# Altium footprint library SOIC16P127_990X604X160L55X40N.PcbLib: 1 footprints
Each footprint in its own frame and in the unit in brackets; x right, y up, seen from the top. Pads: shape width x height; smd on the part's side, far side on the other; paste and mask are expansions set on the pad; w line width, h text height; cw(c..) or ccw(c..) is an arc to the next point about the centre after c.
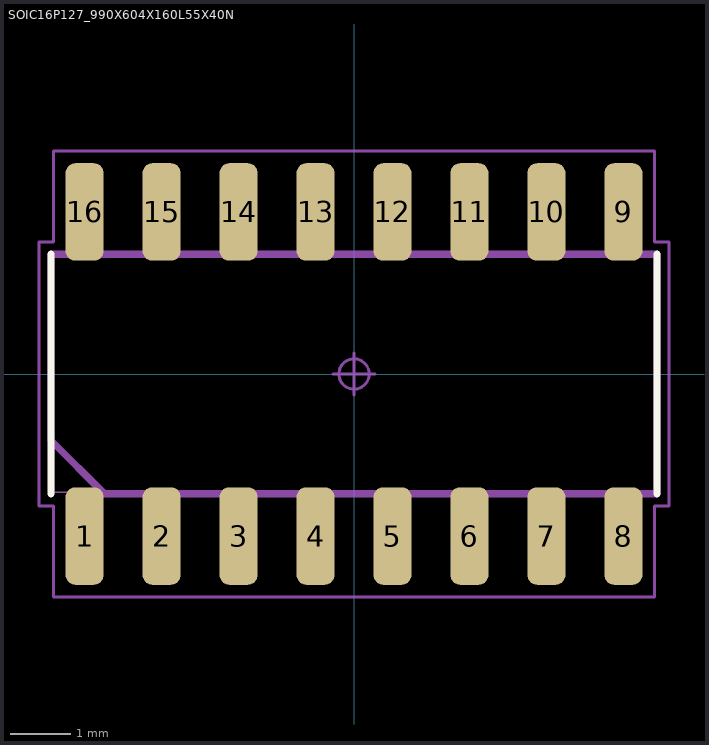
[diagram p0: the footprint, top view; thin cyan lines are the x and y axes]

## SOIC16P127_990X604X160L55X40N [mil] "Small Outline IC, 1.27 mm pitch; 16 pin, 9.90 mm L X 3.90 mm W X 1.60 mm H Body"
height 62.99
pads (16):
  rrect50% 24.65x63.35 smd: 1(-175,-105.24) 2(-125,-105.24) 3(-75,-105.24) 4(-25,-105.24) 5(25,-105.24) 6(75,-105.24) 7(125,-105.24) 8(175,-105.24) 9(175,105.24) 10(125,105.24) 11(75,105.24) 12(25,105.24) 13(-25,105.24) 14(-75,105.24) 15(-125,105.24) 16(-175,105.24)
Top Overlay:
  lines w4.72: -196.85,-77.76 -196.85,77.76 ; 196.85,-77.76 196.85,77.76
Mechanical 3:
  lines w4.72: -196.85,-43.15 -196.85,77.76 196.85,77.76 196.85,-77.76 -162.24,-77.76 -196.85,-43.15
Mechanical 5:
  lines w0.98: -194.88,-76.77 -194.88,76.77 194.88,76.77 194.88,-76.77 -194.88,-76.77 ; -182.99,-118.9 -167.01,-118.9 -167.01,-97.24 -182.99,-97.24 -182.99,-118.9 ; -182.99,97.24 -167.01,97.24 -167.01,118.9 -182.99,118.9 -182.99,97.24 ; -132.99,-118.9 -117.01,-118.9 -117.01,-97.24 -132.99,-97.24 -132.99,-118.9 ; -132.99,97.24 -117.01,97.24 -117.01,118.9 -132.99,118.9 -132.99,97.24 ; -82.99,-118.9 -67.01,-118.9 -67.01,-97.24 -82.99,-97.24 -82.99,-118.9 ; -82.99,97.24 -67.01,97.24 -67.01,118.9 -82.99,118.9 -82.99,97.24 ; -32.99,-118.9 -17.01,-118.9 -17.01,-97.24 -32.99,-97.24 -32.99,-118.9 ; -32.99,97.24 -17.01,97.24 -17.01,118.9 -32.99,118.9 -32.99,97.24 ; 17.01,-118.9 32.99,-118.9 32.99,-97.24 17.01,-97.24 17.01,-118.9 ; 17.01,97.24 32.99,97.24 32.99,118.9 17.01,118.9 17.01,97.24 ; 67.01,-118.9 82.99,-118.9 82.99,-97.24 67.01,-97.24 67.01,-118.9 ; 67.01,97.24 82.99,97.24 82.99,118.9 67.01,118.9 67.01,97.24 ; 117.01,-118.9 132.99,-118.9 132.99,-97.24 117.01,-97.24 117.01,-118.9 ; 117.01,97.24 132.99,97.24 132.99,118.9 117.01,118.9 117.01,97.24 ; 167.01,-118.9 182.99,-118.9 182.99,-97.24 167.01,-97.24 167.01,-118.9 ; 167.01,97.24 182.99,97.24 182.99,118.9 167.01,118.9 167.01,97.24
Mechanical 7:
  circle w1.97: c0,0 r9.84
  lines w1.97: -13.78,0 13.78,0 ; 0,-13.78 0,13.78 ; -204.72,-85.63 -204.72,85.63 -195.2,85.63 -195.2,144.8 195.2,144.8 195.2,85.63 204.72,85.63 204.72,-85.63 195.2,-85.63 195.2,-144.8 -195.2,-144.8 -195.2,-85.63 -204.72,-85.63
Mechanical 9:
  text "'.Designator'" at -245,194.99 h60
3D body "SOIC16P127_990X604X160L55X40.STEP": height 62.99, standoff 0, extent -194.88,-118.9 194.88,118.9
3D body: height 143.7, standoff -143.7, extent -204.72,-144.8 204.72,144.8